# EAGLE library part 61300711821 (library Wuerth_Elektronik_eiCan_Pin_&_Socked_Headers_v1.3)
WR-PHD 2.54mm Socket Header, 7 Pins
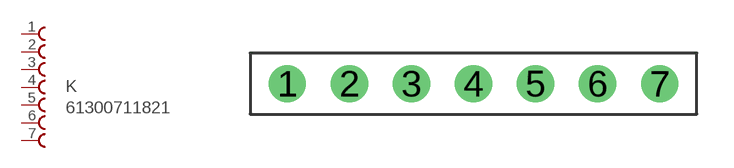
[diagram p109: symbol with the pads of 61300711821; footprint 61300711821]

Designator prefix K

## 61300711821  [61300711821]
1  1  pas
2  2  pas
3  3  pas
4  4  pas
5  5  pas
6  6  pas
7  7  pas

## Footprint 61300711821 (pad centres in mm)
WR-PHD 2.54mm Socket Header, 7 Pins
drill 1.02 round: 1 -7.62,0; 2 -5.08,0; 3 -2.54,0; 4 0,0; 5 2.54,0; 6 5.08,0; 7 7.62,0